# Altium schematic symbol library EPL3015-472MLC.SchLib: 1 symbol
Pins are listed as number, name and electrical type; pins without a type are passive.

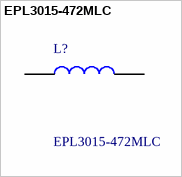
[diagram p0: symbol EPL3015-472MLC]

## EPL3015-472MLC
designator L?
Power Inductors - SMD 4.7uH Shld 20% 1.4A 167mOhms AECQ2; Manufacturer_Name: COILCRAFT; Geometry.Height: 1.55mm; Manufacturer_Part_Number: EPL3015-472MLC; Mouser Part Number: 994-EPL3015-472MLC; Mouser Price/Stock: https://www.mouser.co.uk/ProductDetail/Coilcraft/EPL3015-472MLC?qs=zCSbvcPd3pbkmCtVqRBWqg%3D%3D; Arrow Part Number: *; Arrow Price/Stock: *; Datasheet Link: https://www.mouser.ch/ProductDetail/Coilcraft/EPL3015-472MLC?qs=zCSbvcPd3pbkmCtVqRBWqg%3D%3D
footprint EPL3015472MLC
pins: 1, 2